# EAGLE library part IC_IR2118 (library psas)
Single Channel 600V bootstrap driver, inverted input
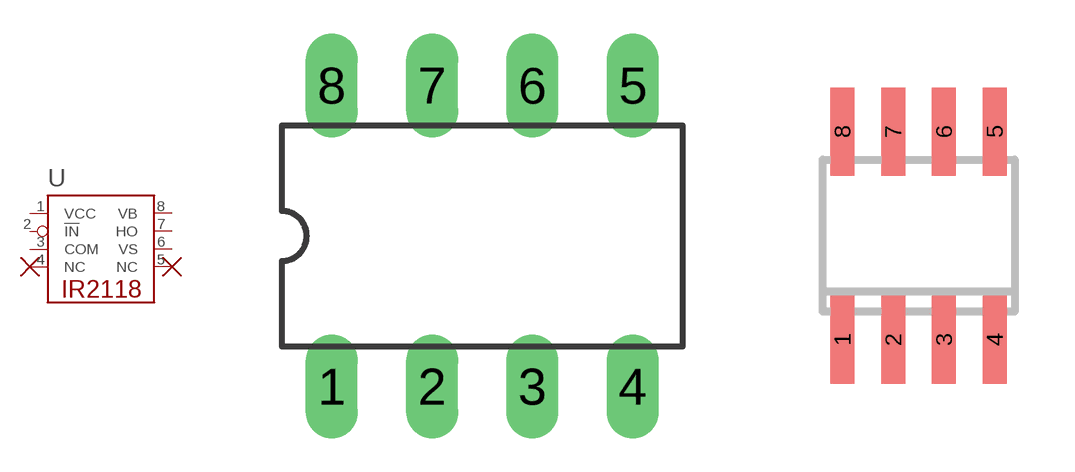
[diagram p22: symbol with the pads of DIL08; footprints DIL08, SO8]

Designator prefix -

## IC_IR2118  [DIL08]
1  VCC  pwr
2  !IN  in
3  COM  pwr
4  NC  nc
5  NC  nc
6  VS  pas
7  HO  out
8  VB  pas

## IC_IR2118S  [SO8]
Pads as for DIL08

## Footprint DIL08 (pad centres in mm)
Dual In Line
drill 0.813 long: 1 -3.81,-3.81; 2 -1.27,-3.81; 3 1.27,-3.81; 4 3.81,-3.81; 5 3.81,3.81; 6 1.27,3.81; 7 -1.27,3.81; 8 -3.81,3.81

## Footprint SO8 (pad centres in mm)
smd 0.6 x 2.2: 1 -1.905,-2.6; 2 -0.635,-2.6; 3 0.635,-2.6; 4 1.905,-2.6; 5 1.905,2.6; 6 0.635,2.6; 7 -0.635,2.6; 8 -1.905,2.6